# Altium footprint library PcbLib1.PcbLib: 20 footprints (part 2 of 2)
Each footprint in its own frame and in the unit in brackets; x right, y up, seen from the top. Pads: shape width x height; smd on the part's side, far side on the other; paste and mask are expansions set on the pad; w line width, h text height; cw(c..) or ccw(c..) is an arc to the next point about the centre after c.
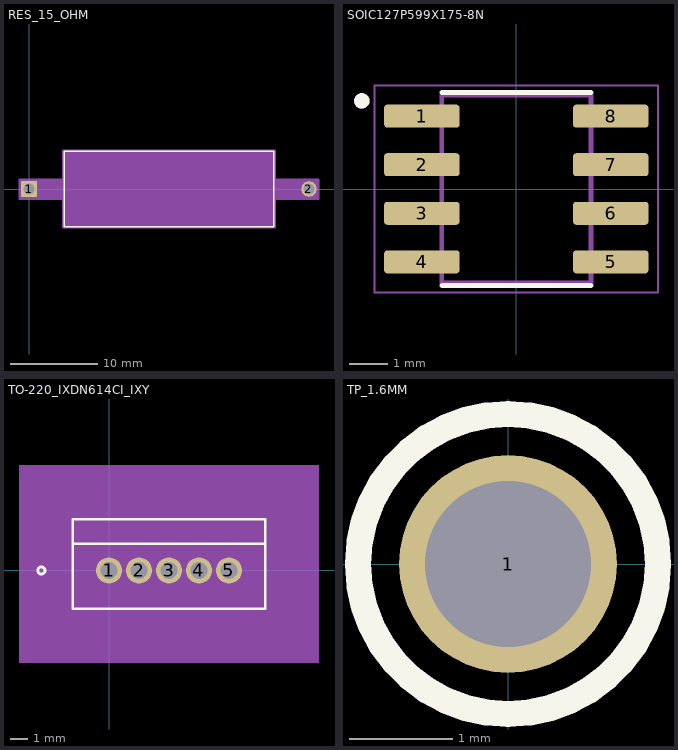
[diagram p1: the footprints below, top view; thin cyan lines are the x and y axes]

## RES_15_OHM [mil]
pads (2):
  rect 70x70 hole 50 mask+0: 1(0,0)
  round 70 hole 50 mask+0: 2(1260,0)
Top Overlay:
  lines w6: 157.5,-170 157.5,170 1102.5,170 1102.5,-170 157.5,-170
Mechanical 13:
  lines w1: 0,0 162.5,0 ; 1097.5,0 1260,0 ; 162.5,-165 162.5,165 1097.5,165 1097.5,-165 162.5,-165
Mechanical 15:
  region: 152.5,-45 -45,-45 -45,45 152.5,45 152.5,175 1107.5,175 1107.5,45 1305,45 1305,-45 1107.5,-45 1107.5,-175 152.5,-175
  lines w6: -45,-45 152.5,-45 152.5,-175 1107.5,-175 1107.5,-45 1305,-45 1305,45 1107.5,45 1107.5,175 152.5,175 152.5,45 -45,45 -45,-45
3D body "RES_15_OHM.step": height 330, standoff -110, extent -20,-164.83 1280,164.84
3D body: height 10, standoff 0, extent 0,0 10,10

## SOIC127P599X175-8N [mm]
pads (8):
  rrect25% 1.97x0.6 smd: 1(-2.47,1.905) 2(-2.47,0.635) 3(-2.47,-0.635) 4(-2.47,-1.905) 5(2.47,-1.905) 6(2.47,-0.635) 7(2.47,0.635) 8(2.47,1.905)
Top Overlay:
  circle w0.2: c-4.04,2.305 r0.1
  lines w0.127: -1.95,-2.525 1.95,-2.525 ; -1.95,2.525 1.95,2.525
Mechanical 13:
  circle w0.2: c-4.04,2.305 r0.1
  lines w0.127: -1.95,-2.452 1.95,-2.452 1.95,2.452 -1.95,2.452 -1.95,-2.452
Mechanical 15:
  lines w0.05: -3.705,-2.702 3.705,-2.702 3.705,2.702 -3.705,2.702 -3.705,-2.702
3D body "INA143U.STEP": height 1.75, standoff 0, extent -2.997,-2.451 2.997,2.451

## TO-220_IXDN614CI_IXY [mil]
pads (5):
  round 58 hole 38 mask+0: 1(0,0) 2(67,0) 3(134,0) 4(201,0) 5(268,0)
Top Overlay:
  circle w6: c-151,0 r8
  lines w6: -76,59.5 344,59.5 ; -81,-85.5 -81,114.5 349,114.5 349,-85.5 -81,-85.5
Mechanical 5:
  region: -201,234.5 469,234.5 469,-205.5 -201,-205.5
Mechanical 13:
  circle w0: c-66,-70.5 r8
  lines w1: -76,54.5 344,54.5 ; -76,-80.5 -76,109.5 344,109.5 344,-80.5 -76,-80.5
  text "TAB" at 115.25,69.5 h25
Mechanical 15:
  region: 354,119.5 -86,119.5 -86,-90.5 354,-90.5
  lines w6: -86,-90.5 354,-90.5 354,119.5 -86,119.5 -86,-90.5
3D body: height 10, standoff 0, extent 0,0 10,10
3D body "TO-220_IXDN614CI_IXY.step": height 1004.84, standoff -15.16, extent -75.98,-80.5 344.02,109.5

## TP_1.6MM [mm]
pads (1):
  round 2.1 hole 1.6: 1(0,0)
Top Overlay:
  circle w0.254: c0,0 r1.448
3D body "TestPin 1.6mm.SLDPRT": height 5, standoff -4.06, extent -1.522,-1.513 1.522,1.525